# Altium footprint library WE-PD2_7850.PcbLib: 1 footprints
Each footprint in its own frame and in the unit in brackets; x right, y up, seen from the top. Pads: shape width x height; smd on the part's side, far side on the other; paste and mask are expansions set on the pad; w line width, h text height; cw(c..) or ccw(c..) is an arc to the next point about the centre after c.
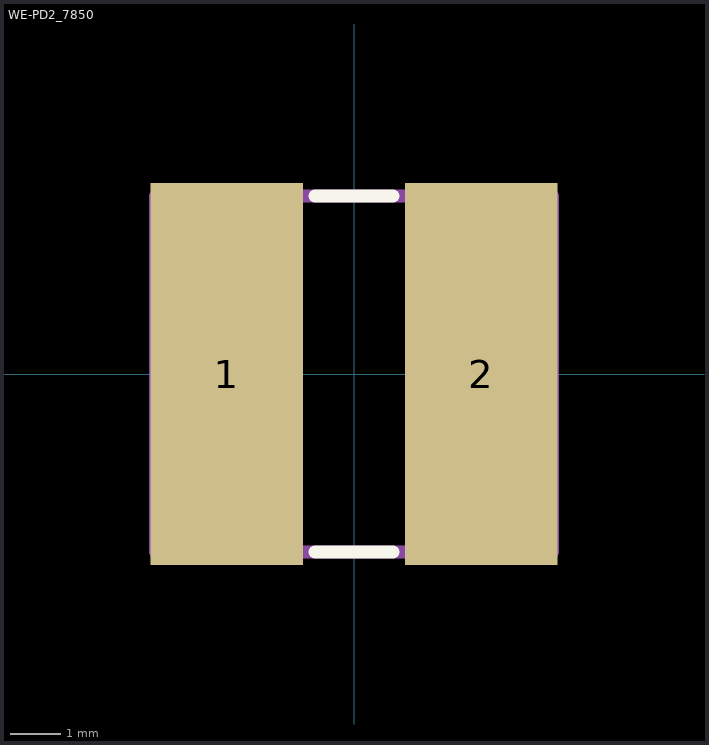
[diagram p0: the footprint, top view; thin cyan lines are the x and y axes]

## WE-PD2_7850 [mm] "SMD Power Inductor, size 7850, body 7.8x7.0mm"
height 5
pads (2):
  rect 3x7.5 smd: 1(-2.5,0) 2(2.5,0)
Top Overlay:
  lines w0.254: -0.77,-3.5 0.77,-3.5 ; -0.77,3.5 0.77,3.5
Mechanical 13:
  lines w0.254: -3.9,-3.5 -3.9,3.5 3.9,3.5 3.9,-3.5 -3.9,-3.5
3D body "IndPD2_7850_744775xx.stp": height 4.95, standoff 0, extent -3.813,-3.5 3.813,3.5